# EAGLE library part AS5601 (library ams)
ROTARY ENCODER 12-Bit Sensor A/B 8-2048 CPR
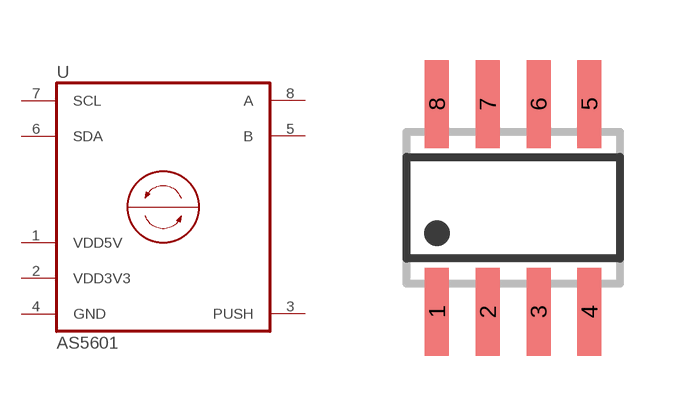
[diagram p2: symbol with the pads of SO08; footprint SO08]

Designator prefix U

## AS5601  [SO08]
1  VDD5V  pwr
2  VDD3V3  pwr
3  PUSH  out
4  GND  pwr
5  B  out
6  SDA
7  SCL
8  A  out

## Footprint SO08 (pad centres in mm)
SMALL OUTLINE INTEGRATED CIRCUIT body 3.9 mm/JEDEC MS-012AA
smd 0.6 x 2.2: 1 -1.905,-2.6; 2 -0.635,-2.6; 3 0.635,-2.6; 4 1.905,-2.6; 5 1.905,2.6; 6 0.635,2.6; 7 -0.635,2.6; 8 -1.905,2.6